# EAGLE library part 61400826021 (library wurth-usb-a-receptacle-stacked-61400826021)
Wurth Elektronik Female Straight Through Hole Type A USB Connector, 30 V, 1.5A WR-COM Source: Datasheet <https://katalog.we-online.com/em/datasheet/61400826021.pdf>
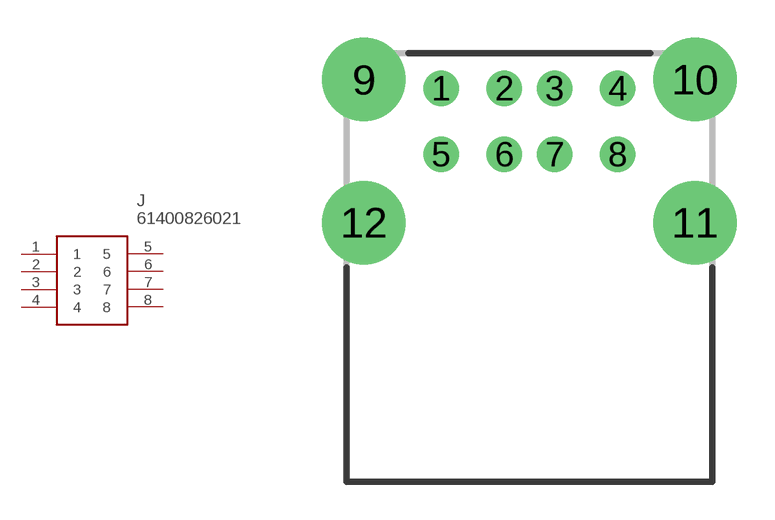
[diagram p0: symbol with the pads of DUAL_USB_2.0_TYPE-A; footprint DUAL_USB_2.0_TYPE-A]

Designator prefix J

## 61400826021 (Description: Wurth Elektronik Female Straight Through Hole Type A USB Connector, 30 V, 1.5A WR-COM; Height: mm; Manufacturer_Name: Wurth Elektronik; Manufacturer_Part_Number: 61400826021; Mouser_Part_Number: 710-61400826021; Mouser_Price-Stock: https://www.mouser.co.uk/ProductDetail/Wurth-Elektronik/61400826021?qs=rS3zZhy2AQNRjP3Vs%2FPxTg%3D%3D)  [DUAL_USB_2.0_TYPE-A]
1  1
2  2
3  3
4  4
5  5
6  6
7  7
8  8

## Footprint DUAL_USB_2.0_TYPE-A (pad centres in mm)
DUAL_USB_2.0_TYPE-A
drill 0.9 pad 1.4: 1 -3.5,15.61; 2 -1,15.61; 3 1,15.61; 4 3.5,15.61; 5 -3.5,12.99; 6 -1,12.99; 7 1,12.99; 8 3.5,12.99
drill 2.3 pad 3.3: 9 -6.57,15.96; 10 6.57,15.96; 11 6.57,10.28; 12 -6.57,10.28